# Altium footprint library therele.PcbLib: 2 footprints
Each footprint in its own frame and in the unit in brackets; x right, y up, seen from the top. Pads: shape width x height; smd on the part's side, far side on the other; paste and mask are expansions set on the pad; w line width, h text height; cw(c..) or ccw(c..) is an arc to the next point about the centre after c.
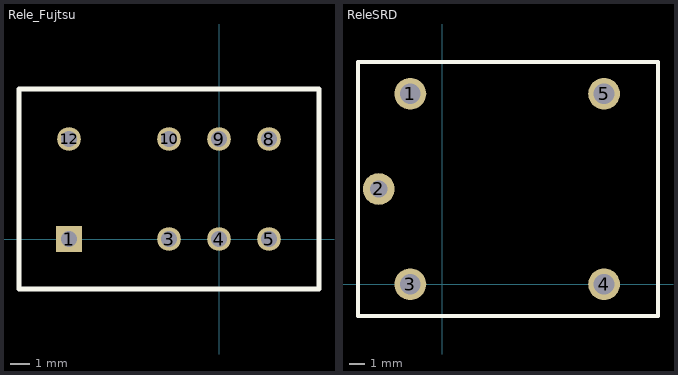
[diagram p0: the footprints below, top view; thin cyan lines are the x and y axes]

## Rele_Fujtsu [mm]
pads (8):
  rect 1.308x1.308 hole 0.8: 1(-7.62,0)
  round 1.2 hole 0.8: 3(-2.54,0) 4(0,0) 5(2.54,0) 8(2.54,5.08) 9(0,5.08) 10(-2.54,5.08) 12(-7.62,5.08)
Top Overlay:
  lines w0.254: -10.16,-2.54 5.08,-2.54 5.08,7.62 -10.16,7.62 -10.16,-2.54

## ReleSRD [mm] "SRD-03-VDC"
pads (5):
  round 2 hole 1.3: 1(-2,12) 3(-2,0) 4(10.2,0) 5(10.2,12)
  round 2 hole 1.1: 2(-4,6)
Top Overlay:
  lines w0.25: -5.3,-2 13.6,-2 13.6,14 -5.3,14 -5.3,-2